# EAGLE library part HEADER-2X3 (library IDC Edge Connector)
PIN HEADER
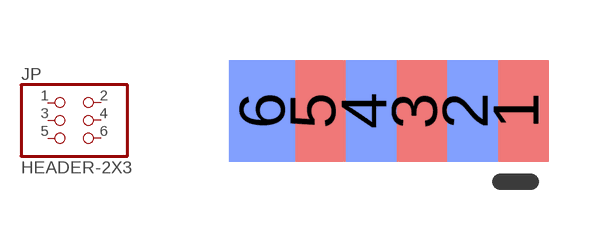
[diagram p0: symbol with the pads of 2X03_EDGE_OFFSET; footprint 2X03_EDGE_OFFSET]

Designator prefix JP

## HEADER-2X3IDC  [2X03_EDGE_OFFSET]
1  1  pas
2  2  pas
3  3  pas
4  4  pas
5  5  pas
6  6  pas

## Footprint 2X03_EDGE_OFFSET (pad centres in mm)
IDC Cable Connector
smd 1.651 x 2.54: 1 3.175,0; 3 0.635,0; 5 -1.905,0
smd 1.651 x 2.54 bottom: 2 1.905,0; 4 -0.635,0; 6 -3.175,0